# Altium schematic symbol library TMCS1108A3BQDT.SchLib: 1 symbol
Pins are listed as number, name and electrical type; pins without a type are passive.

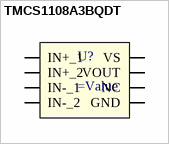
[diagram p0: symbol TMCS1108A3BQDT]

## TMCS1108A3BQDT
designator U?
pins: 1 IN+_1, 2 IN+_2, 3 IN-_1, 4 IN-_2, 5 GND (power), 6 NC, 7 VOUT, 8 VS (power)